# EAGLE library part TPS2513A (library hidnSeek)
TPS2513A Dual USB Dedicated Charging Port Controller in SOT-23-6 Datasheet <http://www.ti.com/litv/slvsby8b>
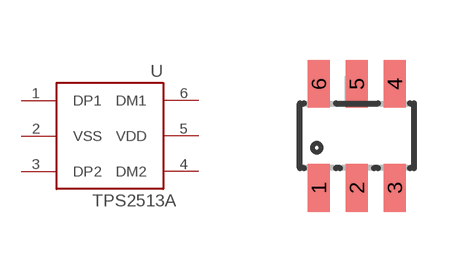
[diagram p4: symbol with the pads of SOT23-6; footprint SOT23-6]

Designator prefix -

## TPS2513A  [SOT23-6]
1  DP1
2  VSS  pwr
3  DP2
4  DM2
5  VDD  pwr
6  DM1

## Footprint SOT23-6 (pad centres in mm)
smd 0.55 x 1.2: 1 -0.95,-1.3; 2 0,-1.3; 3 0.95,-1.3; 4 0.95,1.3; 5 0,1.3; 6 -0.95,1.3